# EAGLE library part T120F484 (library EfinixTrio)
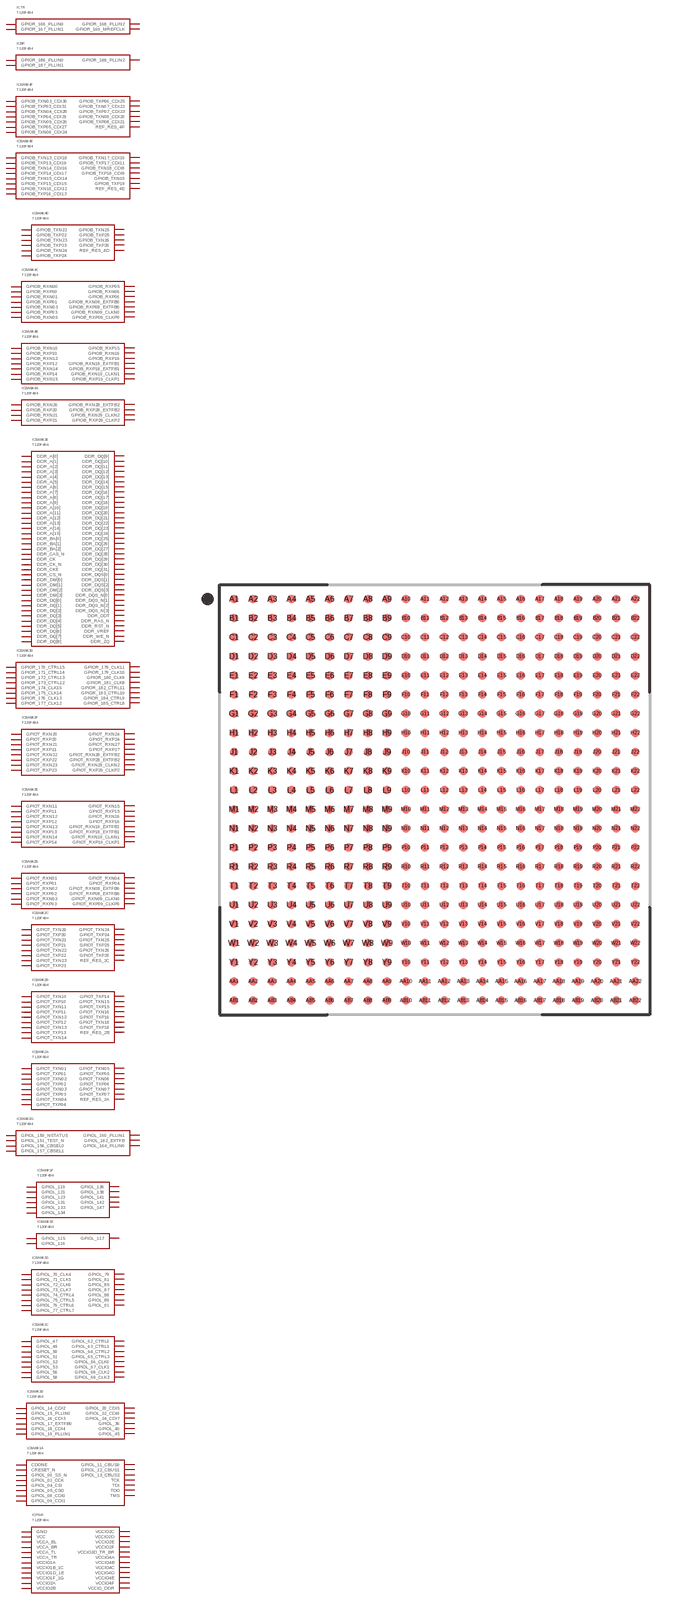
[diagram p1: symbol with the pads of FBGA484; footprint FBGA484]

Designator prefix IC; gates PWR=T120F484PWR BANK1A=T120F484BANK1A BANK1B=T120F484BANK1B BANK1C=T120F484BANK1C BANK1D=T120F484BANK1D BANK1E=T120F484BANK1E BANK1F=T120F484BANK1F BANK1G=T120F484BANK1G BANK2A=T120F484BANK2A BANK2B=T120F484BANK2B BANK2C=T120F484BANK2C BANK2D=T120F484BANK2D BANK2E=T120F484BANK2E BANK2F=T120F484BANK2F BANK3D=T120F484BANK3D BANK3E=T120F484BANK3E BANK4A=T120F484BANK4A BANK4B=T120F484BANK4B BANK4C=T120F484BANK4C BANK4D=T120F484BANK4D BANK4E=T120F484BANK4E BANK4F=T120F484BANK4F BR=T120F484BR TR=T120F484TR

## T120F484  [FBGA484]
A1  PWR:GND  pwr
A2  BANK2A:GPIOT_TXP05
A3  BANK2A:GPIOT_TXN06
A4  BANK2A:GPIOT_TXP06
A5  BANK2A:GPIOT_TXP07
A6  BANK2B:GPIOT_TXP12
A7  BANK2B:GPIOT_TXP14
A8  BANK2B:GPIOT_TXN18
A9  BANK2C:GPIOT_TXP23
A10  BANK2C:GPIOT_TXP25
A11  BANK2D:GPIOT_RXP01
A12  BANK2E:GPIOT_RXP11
A13  BANK2E:GPIOT_RXN11
A14  BANK2E:GPIOT_RXN15
A15  BANK2E:GPIOT_RXN18_EXTFB1
A16  BANK2F:GPIOT_RXP20
A17  BANK2F:GPIOT_RXP21
A18  TR:GPIOR_167_PLLIN1
A19  TR:GPIOR_169_MREFCLK
A20  BANK3D:GPIOR_174_CLK15
A21  BANK3D:GPIOR_176_CLK13
A22  PWR:GND  pwr
AA1  BANK4F:GPIOB_TXP05_CDI27
AA2  BANK4F:GPIOB_TXN06_CDI24
AA3  BANK4F:REF_RES_4F
AA4  PWR:VCCIO4F  pwr
AA5  BANK4F:GPIOB_TXP08_CDI21
AA6  BANK4E:GPIOB_TXN14_CDI16
AA7  BANK4E:GPIOB_TXN16_CDI12
AA8  BANK4D:GPIOB_TXN22
AA9  BANK4D:GPIOB_TXN24
AA10  BANK4D:GPIOB_TXN26
AA11  BANK4C:GPIOB_RXN00
AA12  BANK4C:GPIOB_RXP05
AA13  BANK4B:GPIOB_RXN10
AA14  PWR:VCCIO4B  pwr
AA15  BANK4A:GPIOB_RXN20
AA16  BANK4A:GPIOB_RXP20
AA17  PWR:VCCIO_DDR  pwr
AA18  BANK3E:DDR_DQ[31]
AA19  PWR:VCCIO_DDR  pwr
AA20  BANK3E:DDR_DQ[26]
AA21  PWR:VCCIO_DDR  pwr
AA22  BANK3E:DDR_DQ[27]
AB1  PWR:GND  pwr
AB2  BANK4F:GPIOB_TXP06_CDI25
AB3  BANK4F:GPIOB_TXP07_CDI23
AB4  BANK4F:GPIOB_TXN07_CDI22
AB5  BANK4F:GPIOB_TXN08_CDI20
AB6  BANK4E:GPIOB_TXP14_CDI17
AB7  BANK4E:GPIOB_TXP16_CDI13
AB8  BANK4D:GPIOB_TXP22
AB9  BANK4D:GPIOB_TXP24
AB10  BANK4D:GPIOB_TXP26
AB11  BANK4C:GPIOB_RXP00
AB12  BANK4C:GPIOB_RXN05
AB13  BANK4B:GPIOB_RXP10
AB14  BANK4B:GPIOB_RXN14
AB15  BANK4B:GPIOB_RXP14
AB16  BANK4A:GPIOB_RXP28_EXTFB2
AB17  BANK4A:GPIOB_RXN28_EXTFB2
AB18  BANK3E:DDR_DQ[30]
AB19  BANK3E:DDR_DQ[28]
AB20  BANK3E:DDR_DQS_N[3]
AB21  BANK3E:DDR_DQS[3]
AB22  PWR:GND  pwr
B1  BANK2A:GPIOT_TXN04
B2  BANK2A:GPIOT_TXN05
B3  PWR:VCCIO2A  pwr
B4  PWR:GND  pwr
B5  BANK2A:GPIOT_TXN07
B6  BANK2B:GPIOT_TXN12
B7  BANK2B:GPIOT_TXN14
B8  BANK2B:GPIOT_TXP18
B9  BANK2C:GPIOT_TXN23
B10  BANK2C:GPIOT_TXN25
B11  BANK2D:GPIOT_RXN01
B12  PWR:GND  pwr
B13  BANK2E:GPIOT_RXP13
B14  BANK2E:GPIOT_RXP15
B15  BANK2E:GPIOT_RXP18_EXTFB1
B16  BANK2F:GPIOT_RXN20
B17  BANK2F:GPIOT_RXN21
B18  PWR:VCCIO3D_TR_BR  pwr
B19  BANK3D:GPIOR_172_CTRL13
B20  BANK3D:GPIOR_175_CLK14
B21  BANK3D:GPIOR_177_CLK12
B22  BANK3D:GPIOR_180_CLK9
C1  BANK2A:GPIOT_TXP04
C2  BANK2A:GPIOT_TXN02
C3  BANK2A:GPIOT_TXP03
C4  BANK2A:GPIOT_TXN03
C5  BANK2A:REF_RES_2A
C6  BANK2B:GPIOT_TXP10
C7  BANK2B:GPIOT_TXN10
C8  PWR:VCCIO2B  pwr
C9  PWR:VCCIO2C  pwr
C10  BANK2C:REF_RES_2C
C11  BANK2D:GPIOT_RXP04
C12  BANK2D:GPIOT_RXN04
C13  BANK2E:GPIOT_RXN13
C14  PWR:VCCIO2E  pwr
C15  BANK2F:GPIOT_RXN23
C16  BANK2F:GPIOT_RXP23
C17  PWR:VCCIO2F  pwr
C18  TR:GPIOR_166_PLLIN0
C19  BANK3D:GPIOR_171_CTRL14
C20  PWR:VCCIO3D_TR_BR  pwr
C21  BANK3D:GPIOR_178_CLK11
C22  BANK3D:GPIOR_182_CTRL11
D1  BANK2A:GPIOT_TXP01
D2  BANK2A:GPIOT_TXP02
D3  PWR:VCCIO2A  pwr
D4  PWR:GND  pwr
D5  PWR:VCCA_TL  pwr
D6  PWR:VCCIO2B  pwr
D7  PWR:GND  pwr
D8  BANK2B:REF_RES_2B
D9  BANK2C:GPIOT_TXN21
D10  BANK2C:GPIOT_TXP24
D11  BANK2D:GPIOT_RXN02
D12  PWR:VCCIO2D  pwr
D13  PWR:GND  pwr
D14  BANK2E:GPIOT_RXN19_CLKN1
D15  BANK2F:GPIOT_RXN22
D16  PWR:GND  pwr
D17  PWR:VCCA_TR  pwr
D18  TR:GPIOR_168_PLLIN2
D19  BANK3D:GPIOR_173_CTRL12
D20  BANK3D:GPIOR_179_CLK10
D21  BANK3D:GPIOR_184_CTRL9
D22  BANK3D:GPIOR_183_CTRL10
E1  BANK2A:GPIOT_TXN01
E2  BANK1G:GPIOL_157_CBSEL1
E3  BANK1G:GPIOL_160_PLLIN1
E4  BANK1G:GPIOL_164_PLLIN0
E5  BANK1G:GPIOL_162_EXTFB
E6  BANK2B:GPIOT_TXN11
E7  BANK2B:GPIOT_TXP13
E8  BANK2B:GPIOT_TXP16
E9  BANK2C:GPIOT_TXP21
E10  BANK2C:GPIOT_TXN24
E11  BANK2D:GPIOT_RXP02
E12  BANK2D:GPIOT_RXN09_CLKN0
E13  BANK2E:GPIOT_RXN14
E14  BANK2E:GPIOT_RXP19_CLKP1
E15  BANK2F:GPIOT_RXP22
E16  BANK2F:GPIOT_RXN28_EXTFB2
E17  PWR:VCCA_TR  pwr
E18  PWR:GND  pwr
E19  BANK3D:GPIOR_170_CTRL15
E20  PWR:GND  pwr
E21  BANK3D:GPIOR_181_CLK8
E22  BANK3D:GPIOR_185_CTRL8
F1  BANK1G:GPIOL_151_TEST_N
F2  PWR:VCCIO1F_1G  pwr
F3  PWR:VCCIO1F_1G  pwr
F4  BANK1G:GPIOL_156_CBSEL0
F5  BANK1G:GPIOL_150_NSTATUS
F6  BANK2B:GPIOT_TXP11
F7  BANK2B:GPIOT_TXN13
F8  BANK2B:GPIOT_TXN16
F9  PWR:VCCIO2C  pwr
F10  BANK2C:GPIOT_TXP26
F11  PWR:VCCIO2D  pwr
F12  BANK2D:GPIOT_RXP09_CLKP0
F13  BANK2E:GPIOT_RXP14
F14  PWR:VCCIO2E  pwr
F15  BANK2F:GPIOT_RXN24
F16  BANK2F:GPIOT_RXP28_EXTFB2
F17  BANK2F:GPIOT_RXN29_CLKN2
F18  BANK3E:DDR_DQ[15]
F19  PWR:VCCIO_DDR  pwr
F20  BANK3E:DDR_DQ[14]
F21  PWR:VCCIO_DDR  pwr
F22  PWR:GND  pwr
G1  BANK1F:GPIOL_136
G2  BANK1F:GPIOL_142
G3  BANK1F:GPIOL_141
G4  BANK1F:GPIOL_138
G5  BANK1F:GPIOL_147
G6  BANK1F:GPIOL_134
G7  BANK2B:GPIOT_TXP15
G8  BANK2C:GPIOT_TXN20
G9  BANK2C:GPIOT_TXP22
G10  BANK2C:GPIOT_TXN26
G11  BANK2D:GPIOT_RXP03
G12  BANK2D:GPIOT_RXN08_EXTFB0
G13  BANK2E:GPIOT_RXN12
G14  BANK2E:GPIOT_RXP16
G15  BANK2F:GPIOT_RXP24
G16  PWR:VCCIO2F  pwr
G17  BANK2F:GPIOT_RXP29_CLKP2
G18  PWR:VCCIO_DDR  pwr
G19  BANK3E:DDR_DQ[12]
G20  BANK3E:DDR_DQS[1]
G21  BANK3E:DDR_DQS_N[1]
G22  BANK3E:DDR_DM[1]
H1  BANK1F:GPIOL_133
H2  PWR:GND  pwr
H3  BANK1F:GPIOL_131
H4  BANK1F:GPIOL_121
H5  PWR:GND  pwr
H6  BANK1F:GPIOL_123
H7  BANK2B:GPIOT_TXN15
H8  BANK2C:GPIOT_TXP20
H9  BANK2C:GPIOT_TXN22
H10  PWR:VCC  pwr
H11  BANK2D:GPIOT_RXN03
H12  BANK2D:GPIOT_RXP08_EXTFB0
H13  BANK2E:GPIOT_RXP12
H14  BANK2E:GPIOT_RXN16
H15  PWR:GND  pwr
H16  BANK2F:GPIOT_RXN27
H17  PWR:GND  pwr
H18  BANK3E:DDR_DQ[7]
H19  BANK3E:DDR_DQ[11]
H20  BANK3E:DDR_DQ[10]
H21  BANK3E:DDR_DQ[13]
H22  PWR:GND  pwr
J1  BANK1F:GPIOL_119
J2  BANK1E:GPIOL_117
J3  BANK1D:GPIOL_91
J4  BANK1D:GPIOL_88
J5  BANK1D:GPIOL_85
J6  PWR:VCCIO1D_1E  pwr
J7  BANK1E:GPIOL_115
J8  BANK1E:GPIOL_116
J9  PWR:VCC  pwr
J10  PWR:GND  pwr
J11  PWR:VCC  pwr
J12  PWR:GND  pwr
J13  PWR:VCC  pwr
J14  PWR:GND  pwr
J15  PWR:VCC  pwr
J16  BANK2F:GPIOT_RXP27
J17  PWR:VCCIO_DDR  pwr
J18  BANK3E:DDR_DQ[5]
J19  PWR:VCCIO_DDR  pwr
J20  PWR:GND  pwr
J21  PWR:VCCIO_DDR  pwr
J22  BANK3E:DDR_DQ[8]
K1  BANK1D:GPIOL_87
K2  BANK1D:GPIOL_89
K3  PWR:VCCIO1D_1E  pwr
K4  BANK1D:GPIOL_79
K5  BANK1D:GPIOL_81
K6  BANK1D:GPIOL_77_CTRL7
K7  BANK1D:GPIOL_76_CTRL6
K8  BANK1D:GPIOL_75_CTRL5
K9  PWR:GND  pwr
K10  PWR:VCC  pwr
K11  PWR:GND  pwr
K12  PWR:VCC  pwr
K13  PWR:GND  pwr
K14  PWR:VCC  pwr
K15  BR:GPIOR_188_PLLIN2
K16  PWR:GND  pwr
K17  BANK3E:DDR_VREF
K18  PWR:GND  pwr
K19  BANK3E:DDR_DM[0]
K20  BANK3E:DDR_DQ[2]
K21  BANK3E:DDR_DQ[0]
K22  BANK3E:DDR_DQ[9]
L1  BANK1C:GPIOL_68_CLK2
L2  BANK1C:GPIOL_69_CLK3
L3  BANK1D:GPIOL_73_CLK7
L4  BANK1D:GPIOL_74_CTRL4
L5  BANK1D:GPIOL_71_CLK5
L6  BANK1D:GPIOL_72_CLK6
L7  BANK1D:GPIOL_70_CLK4
L8  PWR:GND  pwr
L9  PWR:VCC  pwr
L10  PWR:GND  pwr
L11  PWR:VCC  pwr
L12  PWR:GND  pwr
L13  PWR:VCC  pwr
L14  PWR:GND  pwr
L15  BR:GPIOR_187_PLLIN1
L16  BANK3E:DDR_CKE
L17  BANK3E:DDR_A[1]
L18  BANK3E:DDR_DQ[6]
L19  BANK3E:DDR_DQ[4]
L20  BANK3E:DDR_DQ[3]
L21  BANK3E:DDR_DQS[0]
L22  BANK3E:DDR_DQS_N[0]
M1  BANK1C:GPIOL_65_CTRL3
M2  PWR:GND  pwr
M3  BANK1C:GPIOL_67_CLK1
M4  BANK1C:GPIOL_64_CTRL2
M5  PWR:GND  pwr
M6  BANK1C:GPIOL_66_CLK0
M7  BANK1C:GPIOL_58
M8  PWR:VCC  pwr
M9  PWR:GND  pwr
M10  PWR:VCC  pwr
M11  PWR:GND  pwr
M12  PWR:VCC  pwr
M13  PWR:GND  pwr
M14  PWR:VCC  pwr
M15  BR:GPIOR_186_PLLIN0
M16  BANK3E:DDR_CAS_N
M17  PWR:VCCIO_DDR  pwr
M18  BANK3E:DDR_A[0]
M19  PWR:VCCIO_DDR  pwr
M20  BANK3E:DDR_A[6]
M21  PWR:VCCIO_DDR  pwr
M22  BANK3E:DDR_DQ[1]
N1  BANK1C:GPIOL_62_CTRL0
N2  BANK1C:GPIOL_63_CTRL1
N3  PWR:VCCIO1B_1C  pwr
N4  BANK1C:GPIOL_56
N5  BANK1C:GPIOL_53
N6  PWR:VCCIO1B_1C  pwr
N7  BANK1B:GPIOL_40
N8  PWR:GND  pwr
N9  PWR:VCC  pwr
N10  PWR:GND  pwr
N11  PWR:VCC  pwr
N12  PWR:GND  pwr
N13  PWR:VCC  pwr
N14  PWR:GND  pwr
N15  PWR:VCCA_BR  pwr
N16  PWR:GND  pwr
N17  BANK3E:DDR_A[2]
N18  PWR:GND  pwr
N19  BANK3E:DDR_A[4]
N20  PWR:GND  pwr
N21  BANK3E:DDR_CK
N22  PWR:GND  pwr
P1  BANK1C:GPIOL_52
P2  BANK1C:GPIOL_50
P3  BANK1C:GPIOL_51
P4  BANK1B:GPIOL_36
P5  BANK1C:GPIOL_47
P6  BANK1B:GPIOL_45
P7  BANK1B:GPIOL_24_CDI7
P8  BANK1B:GPIOL_22_CDI6
P9  PWR:GND  pwr
P10  PWR:VCC  pwr
P11  PWR:GND  pwr
P12  PWR:VCC  pwr
P13  PWR:GND  pwr
P14  PWR:VCC  pwr
P15  PWR:VCCA_BR  pwr
P16  BANK3E:DDR_CS_N
P17  BANK3E:DDR_A[7]
P18  BANK3E:DDR_ZQ
P19  BANK3E:DDR_A[8]
P20  BANK3E:DDR_A[3]
P21  BANK3E:DDR_CK_N
P22  BANK3E:DDR_A[10]
R1  BANK1C:GPIOL_49
R2  BANK1B:GPIOL_15_PLLIN0
R3  BANK1B:GPIOL_17_EXTFB0
R4  BANK1B:GPIOL_19_PLLIN1
R5  PWR:VCCIO1B_1C  pwr
R6  BANK1B:GPIOL_20_CDI5
R7  BANK1B:GPIOL_18_CDI4
R8  BANK1B:GPIOL_16_CDI3
R9  PWR:VCCIO4E  pwr
R10  BANK4C:GPIOB_RXN01
R11  PWR:VCC  pwr
R12  BANK4C:GPIOB_RXP09_CLKP0
R13  BANK4B:GPIOB_RXN15
R14  BANK4B:GPIOB_RXP15
R15  BANK4A:GPIOB_RXN21
R16  BANK3E:DDR_RAS_N
R17  PWR:VCCIO_DDR  pwr
R18  BANK3E:DDR_A[14]
R19  PWR:VCCIO_DDR  pwr
R20  BANK3E:DDR_A[9]
R21  PWR:VCCIO_DDR  pwr
R22  BANK3E:DDR_A[11]
T1  BANK1A:TCK
T2  PWR:GND  pwr
T3  BANK1A:TDO
T4  BANK1A:GPIOL_13_CBUS2
T5  PWR:GND  pwr
T6  BANK1B:GPIOL_14_CDI2
T7  PWR:GND  pwr
T8  BANK4E:GPIOB_TXP18_CDI9
T9  PWR:VCCIO4D  pwr
T10  BANK4C:GPIOB_RXP01
T11  PWR:VCCIO4C  pwr
T12  BANK4C:GPIOB_RXN09_CLKN0
T13  BANK4B:GPIOB_RXP12
T14  BANK4B:GPIOB_RXP18_EXTFB1
T15  BANK4A:GPIOB_RXP21
T16  PWR:GND  pwr
T17  BANK3E:DDR_BA[1]
T18  PWR:GND  pwr
T19  BANK3E:DDR_A[5]
T20  BANK3E:DDR_A[12]
T21  BANK3E:DDR_A[13]
T22  BANK3E:DDR_DQ[17]
U1  BANK1A:TMS
U2  BANK1A:TDI
U3  PWR:VCCIO1A  pwr
U4  BANK1A:GPIOL_11_CBUS0
U5  BANK1A:GPIOL_05_CSO
U6  BANK1A:GPIOL_12_CBUS1
U7  BANK4E:GPIOB_TXN15_CDI14
U8  BANK4E:GPIOB_TXN18_CDI8
U9  BANK4D:GPIOB_TXP23
U10  BANK4D:GPIOB_TXN23
U11  BANK4C:GPIOB_RXP06
U12  BANK4C:GPIOB_RXN06
U13  BANK4B:GPIOB_RXN12
U14  BANK4B:GPIOB_RXN18_EXTFB1
U15  PWR:VCCIO4A  pwr
U16  BANK3E:DDR_WE_N
U17  BANK3E:DDR_A[15]
U18  BANK3E:DDR_DQ[20]
U19  BANK3E:DDR_DQ[16]
U20  PWR:GND  pwr
U21  BANK3E:DDR_DQ[19]
U22  PWR:GND  pwr
V1  BANK1A:GPIOL_09_CDI1
V2  BANK1A:GPIOL_08_CDI0
V3  BANK1A:GPIOL_00_SS_N
V4  BANK1A:CRESET_N
V5  BANK1A:CDONE
V6  BANK1A:GPIOL_04_CSI
V7  BANK4E:GPIOB_TXP15_CDI15
V8  BANK4E:GPIOB_TXN17_CDI10
V9  BANK4E:GPIOB_TXP19
V10  BANK4D:GPIOB_TXN25
V11  BANK4C:GPIOB_RXN03
V12  BANK4C:GPIOB_RXP08_EXTFB0
V13  PWR:VCCIO4B  pwr
V14  BANK4B:GPIOB_RXP19_CLKP1
V15  BANK4A:GPIOB_RXP29_CLKP2
V16  BANK3E:DDR_BA[0]
V17  PWR:VCCIO_DDR  pwr
V18  BANK3E:DDR_DQ[23]
V19  PWR:VCCIO_DDR  pwr
V20  BANK3E:DDR_DM[2]
V21  PWR:VCCIO_DDR  pwr
V22  BANK3E:DDR_DQS[2]
W1  BANK1A:GPIOL_01_CCK
W2  BANK4F:GPIOB_TXP04_CDI29
W3  BANK4F:GPIOB_TXN04_CDI28
W4  BANK4F:GPIOB_TXN03_CDI30
W5  PWR:VCCA_BL  pwr
W6  BANK4E:REF_RES_4E
W7  PWR:VCCIO4E  pwr
W8  BANK4E:GPIOB_TXP17_CDI11
W9  BANK4E:GPIOB_TXN19
W10  BANK4D:GPIOB_TXP25
W11  BANK4C:GPIOB_RXP03
W12  BANK4C:GPIOB_RXN08_EXTFB0
W13  PWR:GND  pwr
W14  BANK4B:GPIOB_RXN19_CLKN1
W15  BANK4A:GPIOB_RXN29_CLKN2
W16  BANK3E:DDR_BA[2]
W17  BANK3E:DDR_ODT
W18  PWR:GND  pwr
W19  BANK3E:DDR_DQ[22]
W20  BANK3E:DDR_DQ[21]
W21  BANK3E:DDR_DQ[18]
W22  BANK3E:DDR_DQS_N[2]
Y1  BANK4F:GPIOB_TXN05_CDI26
Y2  PWR:GND  pwr
Y3  PWR:VCCIO4F  pwr
Y4  BANK4F:GPIOB_TXP03_CDI31
Y5  PWR:GND  pwr
Y6  BANK4E:GPIOB_TXP13_CDI19
Y7  BANK4E:GPIOB_TXN13_CDI18
Y8  PWR:GND  pwr
Y9  PWR:VCCIO4D  pwr
Y10  BANK4D:REF_RES_4D
Y11  PWR:GND  pwr
Y12  PWR:VCCIO4C  pwr
Y13  BANK4B:GPIOB_RXN16
Y14  BANK4B:GPIOB_RXP16
Y15  PWR:GND  pwr
Y16  PWR:VCCIO4A  pwr
Y17  BANK3E:DDR_RST_N
Y18  BANK3E:DDR_DQ[29]
Y19  BANK3E:DDR_DM[3]
Y20  PWR:GND  pwr
Y21  BANK3E:DDR_DQ[24]
Y22  BANK3E:DDR_DQ[25]

## Footprint FBGA484 (pad centres in mm)
484-BGA, collapsing, 0.80 mm pitch, 18.00 X 18.00 X 1.22 mm body 484-pin collapsing BGA package with 0.80 mm col pitch and 0.80 mm row pitch with body size 18.00 X 18.00 X 1.22 mm
smd 0.35 x 0.35: A1 -8.4,8.4; A2 -7.6,8.4; A3 -6.8,8.4; A4 -6,8.4; A5 -5.2,8.4; A6 -4.4,8.4; A7 -3.6,8.4; A8 -2.8,8.4; A9 -2,8.4; A10 -1.2,8.4; A11 -0.4,8.4; A12 0.4,8.4; A13 1.2,8.4; A14 2,8.4; A15 2.8,8.4; A16 3.6,8.4; A17 4.4,8.4; A18 5.2,8.4; A19 6,8.4; A20 6.8,8.4; A21 7.6,8.4; A22 8.4,8.4; AA1 -8.4,-7.6; AA2 -7.6,-7.6; AA3 -6.8,-7.6; AA4 -6,-7.6; AA5 -5.2,-7.6; AA6 -4.4,-7.6; AA7 -3.6,-7.6; AA8 -2.8,-7.6; AA9 -2,-7.6; AA10 -1.2,-7.6; AA11 -0.4,-7.6; AA12 0.4,-7.6; AA13 1.2,-7.6; AA14 2,-7.6; AA15 2.8,-7.6; AA16 3.6,-7.6; AA17 4.4,-7.6; AA18 5.2,-7.6; AA19 6,-7.6; AA20 6.8,-7.6; AA21 7.6,-7.6; AA22 8.4,-7.6; AB1 -8.4,-8.4; AB2 -7.6,-8.4; AB3 -6.8,-8.4; AB4 -6,-8.4; AB5 -5.2,-8.4; AB6 -4.4,-8.4; AB7 -3.6,-8.4; AB8 -2.8,-8.4; AB9 -2,-8.4; AB10 -1.2,-8.4; AB11 -0.4,-8.4; AB12 0.4,-8.4; AB13 1.2,-8.4; AB14 2,-8.4; AB15 2.8,-8.4; AB16 3.6,-8.4; AB17 4.4,-8.4; AB18 5.2,-8.4; AB19 6,-8.4; AB20 6.8,-8.4; AB21 7.6,-8.4; AB22 8.4,-8.4; B1 -8.4,7.6; B2 -7.6,7.6; B3 -6.8,7.6; B4 -6,7.6; B5 -5.2,7.6; B6 -4.4,7.6; B7 -3.6,7.6; B8 -2.8,7.6; B9 -2,7.6; B10 -1.2,7.6; B11 -0.4,7.6; B12 0.4,7.6; B13 1.2,7.6; B14 2,7.6; B15 2.8,7.6; B16 3.6,7.6; B17 4.4,7.6; B18 5.2,7.6; B19 6,7.6; B20 6.8,7.6; B21 7.6,7.6; B22 8.4,7.6; C1 -8.4,6.8; C2 -7.6,6.8; C3 -6.8,6.8; C4 -6,6.8; C5 -5.2,6.8; C6 -4.4,6.8; C7 -3.6,6.8; C8 -2.8,6.8; C9 -2,6.8; C10 -1.2,6.8; C11 -0.4,6.8; C12 0.4,6.8; C13 1.2,6.8; C14 2,6.8; C15 2.8,6.8; C16 3.6,6.8; C17 4.4,6.8; C18 5.2,6.8; C19 6,6.8; C20 6.8,6.8; C21 7.6,6.8; C22 8.4,6.8; D1 -8.4,6; D2 -7.6,6; D3 -6.8,6; D4 -6,6; D5 -5.2,6; D6 -4.4,6; D7 -3.6,6; D8 -2.8,6; D9 -2,6; D10 -1.2,6; D11 -0.4,6; D12 0.4,6; D13 1.2,6; D14 2,6; D15 2.8,6; D16 3.6,6; D17 4.4,6; D18 5.2,6; D19 6,6; D20 6.8,6; D21 7.6,6; D22 8.4,6; E1 -8.4,5.2; E2 -7.6,5.2; E3 -6.8,5.2; E4 -6,5.2; E5 -5.2,5.2; E6 -4.4,5.2; E7 -3.6,5.2; E8 -2.8,5.2; E9 -2,5.2; E10 -1.2,5.2; E11 -0.4,5.2; E12 0.4,5.2; E13 1.2,5.2; E14 2,5.2; E15 2.8,5.2; E16 3.6,5.2; E17 4.4,5.2; E18 5.2,5.2; E19 6,5.2; E20 6.8,5.2; E21 7.6,5.2; E22 8.4,5.2; F1 -8.4,4.4; F2 -7.6,4.4; F3 -6.8,4.4; F4 -6,4.4; F5 -5.2,4.4; F6 -4.4,4.4; F7 -3.6,4.4; F8 -2.8,4.4; F9 -2,4.4; F10 -1.2,4.4; F11 -0.4,4.4; F12 0.4,4.4; F13 1.2,4.4; F14 2,4.4; F15 2.8,4.4; F16 3.6,4.4; F17 4.4,4.4; F18 5.2,4.4; F19 6,4.4; F20 6.8,4.4; F21 7.6,4.4; F22 8.4,4.4; G1 -8.4,3.6; G2 -7.6,3.6; G3 -6.8,3.6; G4 -6,3.6; G5 -5.2,3.6; G6 -4.4,3.6; G7 -3.6,3.6; G8 -2.8,3.6; G9 -2,3.6; G10 -1.2,3.6; G11 -0.4,3.6; G12 0.4,3.6; G13 1.2,3.6; G14 2,3.6; G15 2.8,3.6; G16 3.6,3.6; G17 4.4,3.6; G18 5.2,3.6; G19 6,3.6; G20 6.8,3.6; G21 7.6,3.6; G22 8.4,3.6; H1 -8.4,2.8; H2 -7.6,2.8; H3 -6.8,2.8; H4 -6,2.8; H5 -5.2,2.8; H6 -4.4,2.8; H7 -3.6,2.8; H8 -2.8,2.8; H9 -2,2.8; H10 -1.2,2.8; H11 -0.4,2.8; H12 0.4,2.8; H13 1.2,2.8; H14 2,2.8; H15 2.8,2.8; H16 3.6,2.8; H17 4.4,2.8; H18 5.2,2.8; H19 6,2.8; H20 6.8,2.8; H21 7.6,2.8; H22 8.4,2.8; J1 -8.4,2; J2 -7.6,2; J3 -6.8,2; J4 -6,2; J5 -5.2,2; J6 -4.4,2; J7 -3.6,2; J8 -2.8,2; J9 -2,2; J10 -1.2,2; J11 -0.4,2; J12 0.4,2; J13 1.2,2; J14 2,2; J15 2.8,2; J16 3.6,2; J17 4.4,2; J18 5.2,2; J19 6,2; J20 6.8,2; J21 7.6,2; J22 8.4,2; K1 -8.4,1.2; K2 -7.6,1.2; K3 -6.8,1.2; K4 -6,1.2; K5 -5.2,1.2; K6 -4.4,1.2; K7 -3.6,1.2; K8 -2.8,1.2; K9 -2,1.2; K10 -1.2,1.2; K11 -0.4,1.2; K12 0.4,1.2; K13 1.2,1.2; K14 2,1.2; K15 2.8,1.2; K16 3.6,1.2; K17 4.4,1.2; K18 5.2,1.2; K19 6,1.2; K20 6.8,1.2; K21 7.6,1.2; K22 8.4,1.2; L1 -8.4,0.4; L2 -7.6,0.4; L3 -6.8,0.4; L4 -6,0.4; L5 -5.2,0.4; L6 -4.4,0.4; L7 -3.6,0.4; L8 -2.8,0.4; L9 -2,0.4; L10 -1.2,0.4; L11 -0.4,0.4; L12 0.4,0.4; L13 1.2,0.4; L14 2,0.4; L15 2.8,0.4; L16 3.6,0.4; L17 4.4,0.4; L18 5.2,0.4; L19 6,0.4; L20 6.8,0.4; L21 7.6,0.4; L22 8.4,0.4; M1 -8.4,-0.4; M2 -7.6,-0.4; M3 -6.8,-0.4; M4 -6,-0.4; M5 -5.2,-0.4; M6 -4.4,-0.4; M7 -3.6,-0.4; M8 -2.8,-0.4; M9 -2,-0.4; M10 -1.2,-0.4; M11 -0.4,-0.4; M12 0.4,-0.4; M13 1.2,-0.4; M14 2,-0.4; M15 2.8,-0.4; M16 3.6,-0.4; M17 4.4,-0.4; M18 5.2,-0.4; M19 6,-0.4; M20 6.8,-0.4; M21 7.6,-0.4; M22 8.4,-0.4; N1 -8.4,-1.2; N2 -7.6,-1.2; N3 -6.8,-1.2; N4 -6,-1.2; N5 -5.2,-1.2; N6 -4.4,-1.2; N7 -3.6,-1.2; N8 -2.8,-1.2; N9 -2,-1.2; N10 -1.2,-1.2; N11 -0.4,-1.2; N12 0.4,-1.2; N13 1.2,-1.2; N14 2,-1.2; N15 2.8,-1.2; N16 3.6,-1.2; N17 4.4,-1.2; N18 5.2,-1.2; N19 6,-1.2; N20 6.8,-1.2; N21 7.6,-1.2; N22 8.4,-1.2; P1 -8.4,-2; P2 -7.6,-2; P3 -6.8,-2; P4 -6,-2; P5 -5.2,-2; P6 -4.4,-2; P7 -3.6,-2; P8 -2.8,-2; P9 -2,-2; P10 -1.2,-2; P11 -0.4,-2; P12 0.4,-2; P13 1.2,-2; P14 2,-2; P15 2.8,-2; P16 3.6,-2; P17 4.4,-2; P18 5.2,-2; P19 6,-2; P20 6.8,-2; P21 7.6,-2; P22 8.4,-2; R1 -8.4,-2.8; R2 -7.6,-2.8; R3 -6.8,-2.8; R4 -6,-2.8; R5 -5.2,-2.8; R6 -4.4,-2.8; R7 -3.6,-2.8; R8 -2.8,-2.8; R9 -2,-2.8; R10 -1.2,-2.8; R11 -0.4,-2.8; R12 0.4,-2.8; R13 1.2,-2.8; R14 2,-2.8; R15 2.8,-2.8; R16 3.6,-2.8; R17 4.4,-2.8; R18 5.2,-2.8; R19 6,-2.8; R20 6.8,-2.8; R21 7.6,-2.8; R22 8.4,-2.8; T1 -8.4,-3.6; T2 -7.6,-3.6; T3 -6.8,-3.6; T4 -6,-3.6; T5 -5.2,-3.6; T6 -4.4,-3.6; T7 -3.6,-3.6; T8 -2.8,-3.6; T9 -2,-3.6; T10 -1.2,-3.6; T11 -0.4,-3.6; T12 0.4,-3.6; T13 1.2,-3.6; T14 2,-3.6; T15 2.8,-3.6; T16 3.6,-3.6; T17 4.4,-3.6; T18 5.2,-3.6; T19 6,-3.6; T20 6.8,-3.6; T21 7.6,-3.6; T22 8.4,-3.6; U1 -8.4,-4.4; U2 -7.6,-4.4; U3 -6.8,-4.4; U4 -6,-4.4; U5 -5.2,-4.4; U6 -4.4,-4.4; U7 -3.6,-4.4; U8 -2.8,-4.4; U9 -2,-4.4; U10 -1.2,-4.4; U11 -0.4,-4.4; U12 0.4,-4.4; U13 1.2,-4.4; U14 2,-4.4; U15 2.8,-4.4; U16 3.6,-4.4; U17 4.4,-4.4; U18 5.2,-4.4; U19 6,-4.4; U20 6.8,-4.4; U21 7.6,-4.4; U22 8.4,-4.4; V1 -8.4,-5.2; V2 -7.6,-5.2; V3 -6.8,-5.2; V4 -6,-5.2; V5 -5.2,-5.2; V6 -4.4,-5.2; V7 -3.6,-5.2; V8 -2.8,-5.2; V9 -2,-5.2; V10 -1.2,-5.2; V11 -0.4,-5.2; V12 0.4,-5.2; V13 1.2,-5.2; V14 2,-5.2; V15 2.8,-5.2; V16 3.6,-5.2; V17 4.4,-5.2; V18 5.2,-5.2; V19 6,-5.2; V20 6.8,-5.2; V21 7.6,-5.2; V22 8.4,-5.2; W1 -8.4,-6; W2 -7.6,-6; W3 -6.8,-6; W4 -6,-6; W5 -5.2,-6; W6 -4.4,-6; W7 -3.6,-6; W8 -2.8,-6; W9 -2,-6; W10 -1.2,-6; W11 -0.4,-6; W12 0.4,-6; W13 1.2,-6; W14 2,-6; W15 2.8,-6; W16 3.6,-6; W17 4.4,-6; W18 5.2,-6; W19 6,-6; W20 6.8,-6; W21 7.6,-6; W22 8.4,-6; Y1 -8.4,-6.8; Y2 -7.6,-6.8; Y3 -6.8,-6.8; Y4 -6,-6.8; Y5 -5.2,-6.8; Y6 -4.4,-6.8; Y7 -3.6,-6.8; Y8 -2.8,-6.8; Y9 -2,-6.8; Y10 -1.2,-6.8; Y11 -0.4,-6.8; Y12 0.4,-6.8; Y13 1.2,-6.8; Y14 2,-6.8; Y15 2.8,-6.8; Y16 3.6,-6.8; Y17 4.4,-6.8; Y18 5.2,-6.8; Y19 6,-6.8; Y20 6.8,-6.8; Y21 7.6,-6.8; Y22 8.4,-6.8